# EAGLE library part STM32F407V (library systas0)
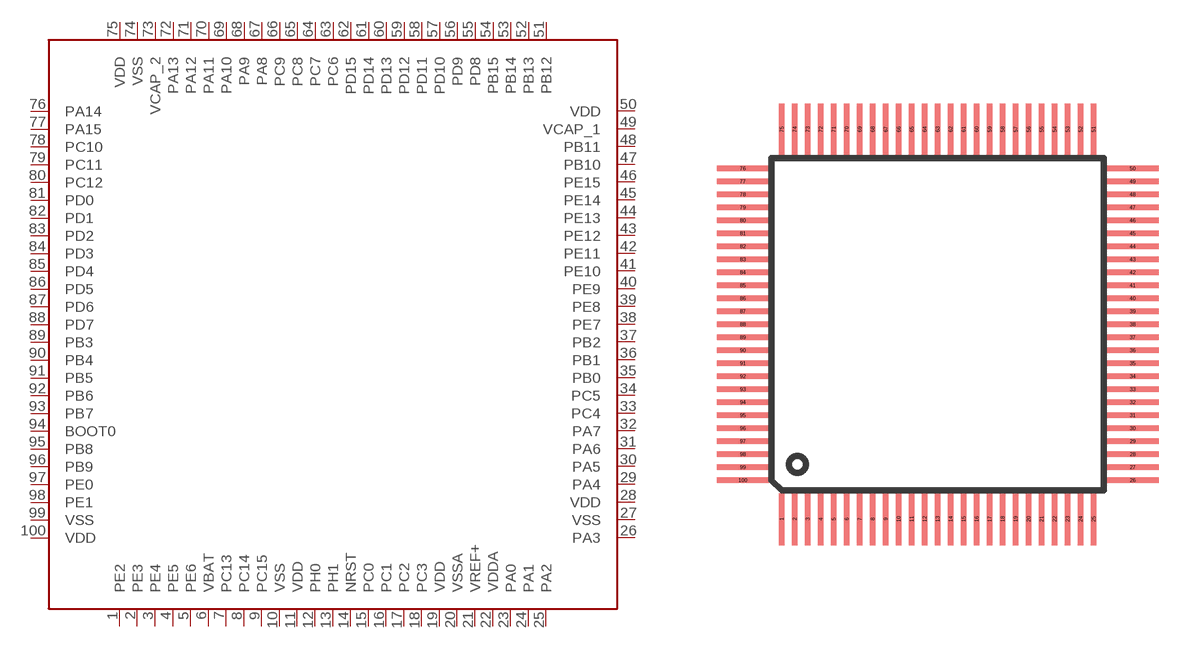
[diagram p32: symbol with the pads of LQFP100; footprint LQFP100]

Designator prefix -

## STM32F407V  [LQFP100]
1  PE2
2  PE3
3  PE4
4  PE5
5  PE6
6  VBAT
7  PC13
8  PC14
9  PC15
10  VSS
11  VDD
12  PH0
13  PH1
14  NRST
15  PC0
16  PC1
17  PC2
18  PC3
19  VDD
20  VSSA
21  VREF+
22  VDDA
23  PA0
24  PA1
25  PA2
26  PA3
27  VSS
28  VDD
29  PA4
30  PA5
31  PA6
32  PA7
33  PC4
34  PC5
35  PB0
36  PB1
37  PB2
38  PE7
39  PE8
40  PE9
41  PE10
42  PE11
43  PE12
44  PE13
45  PE14
46  PE15
47  PB10
48  PB11
49  VCAP_1
50  VDD
51  PB12
52  PB13
53  PB14
54  PB15
55  PD8
56  PD9
57  PD10
58  PD11
59  PD12
60  PD13
61  PD14
62  PD15
63  PC6
64  PC7
65  PC8
66  PC9
67  PA8
68  PA9
69  PA10
70  PA11
71  PA12
72  PA13
73  VCAP_2
74  VSS
75  VDD
76  PA14
77  PA15
78  PC10
79  PC11
80  PC12
81  PD0
82  PD1
83  PD2
84  PD3
85  PD4
86  PD5
87  PD6
88  PD7
89  PB3
90  PB4
91  PB5
92  PB6
93  PB7
94  BOOT0
95  PB8
96  PB9
97  PE0
98  PE1
99  VSS
100  VDD

## Footprint LQFP100 (pad centres in mm)
smd 0.22 x 2: 1 -6.5,-7; 2 -6,-7; 3 -5.5,-7; 4 -5,-7; 5 -4.5,-7; 6 -4,-7; 7 -3.5,-7; 8 -3,-7; 9 -2.5,-7; 10 -2,-7; 11 -1.5,-7; 12 -1,-7; 13 -0.5,-7; 14 0,-7; 15 0.5,-7; 16 1,-7; 17 1.5,-7; 18 2,-7; 19 2.5,-7; 20 3,-7; 21 3.5,-7; 22 4,-7; 23 4.5,-7; 24 5,-7; 25 5.5,-7; 51 5.5,8; 52 5,8; 53 4.5,8; 54 4,8; 55 3.5,8; 56 3,8; 57 2.5,8; 58 2,8; 59 1.5,8; 60 1,8; 61 0.5,8; 62 0,8; 63 -0.5,8; 64 -1,8; 65 -1.5,8; 66 -2,8; 67 -2.5,8; 68 -3,8; 69 -3.5,8; 70 -4,8; 71 -4.5,8; 72 -5,8; 73 -5.5,8; 74 -6,8; 75 -6.5,8
smd 2 x 0.22: 26 7,-5.5; 27 7,-5; 28 7,-4.5; 29 7,-4; 30 7,-3.5; 31 7,-3; 32 7,-2.5; 33 7,-2; 34 7,-1.5; 35 7,-1; 36 7,-0.5; 37 7,0; 38 7,0.5; 39 7,1; 40 7,1.5; 41 7,2; 42 7,2.5; 43 7,3; 44 7,3.5; 45 7,4; 46 7,4.5; 47 7,5; 48 7,5.5; 49 7,6; 50 7,6.5; 76 -8,6.5; 77 -8,6; 78 -8,5.5; 79 -8,5; 80 -8,4.5; 81 -8,4; 82 -8,3.5; 83 -8,3; 84 -8,2.5; 85 -8,2; 86 -8,1.5; 87 -8,1; 88 -8,0.5; 89 -8,0; 90 -8,-0.5; 91 -8,-1; 92 -8,-1.5; 93 -8,-2; 94 -8,-2.5; 95 -8,-3; 96 -8,-3.5; 97 -8,-4; 98 -8,-4.5; 99 -8,-5; 100 -8,-5.5